# EAGLE library part NE555ADIE (library dice)
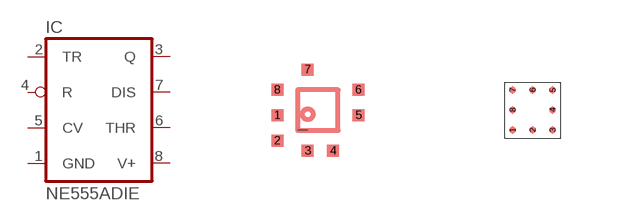
[diagram p2: symbol with the pads of DIE_NE555; footprints DIE_NE555, BPA08EFB_NE555]

Designator prefix IC

## NE555ADIEBARE_DIE  [DIE_NE555]
1  GND  pwr
2  TR  in
3  Q  out
4  R  in
5  CV  in
6  THR  in
7  DIS  in
8  V+  pwr

## NE555ADIEBPA08EFP_NE555  [BPA08EFB_NE555]
Pads as for DIE_NE555

## NE555ADIELOTBUMPS  [MICRO8BUMPS]
A1  DIS  in
A2  V+  pwr
A3  GND  pwr
B1  THR  in
B3  TR  in
C1  CV  in
C2  R  in
C3  Q  out

## Footprint DIE_NE555 (pad centres in mm)
smd 0.3 x 0.3: 1 -0.254,0.635; 2 -0.254,0; 3 0.508,-0.254; 4 1.143,-0.254; 5 1.778,0.635; 6 1.778,1.27; 7 0.508,1.778; 8 -0.254,1.27

## Footprint BPA08EFB_NE555 (pad centres in mm)
smd 0.17 x 0.17: 1 0,0; 2 0.5,0; 3 1,0; 4 1,0.5; 5 1,1; 6 0.5,1; 7 0,1; 8 0,0.5

## Footprint MICRO8BUMPS (pad centres in mm)
smd 0.17 x 0.17: A1 -3.505,3.5; A2 -3.505,4; A3 -3.505,4.5; B1 -3.005,3.5; B3 -3.005,4.5; C1 -2.505,3.5; C2 -2.505,4; C3 -2.505,4.5